# EAGLE library part RELAY_DPDT_* (library HyTechDevices)
Dual Pole, Dual Throw Relay Datasheet <https://www.mouser.com/datasheet/2/418/5/NG_DS_RT2_1014-572844.pdf>
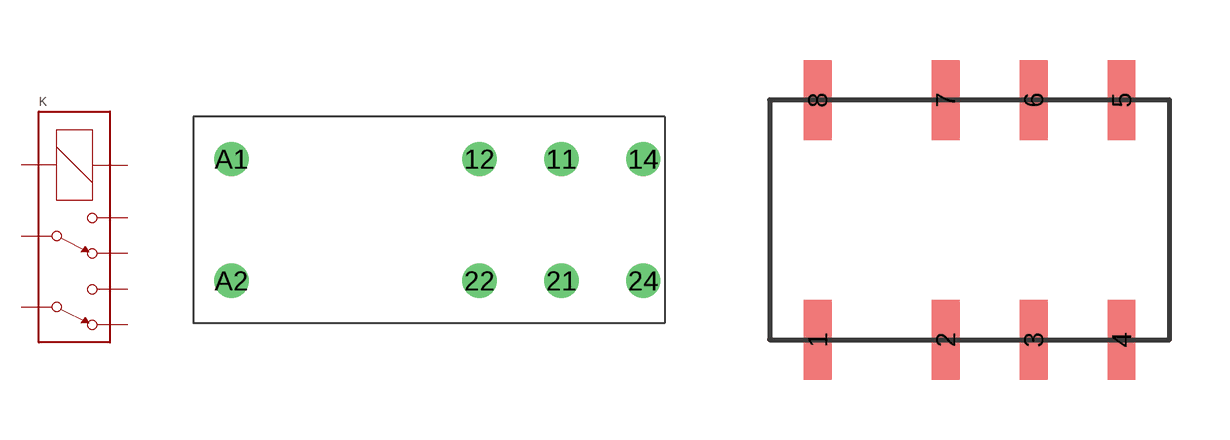
[diagram p57: symbol with the pads of RT*2*; footprints RT*2*, IM*G]

Designator prefix K

## RELAY_DPDT_RT424009TH (DKPN: PB2021-ND; MANUFACTURER: TE Connectivity; MOPN: 655-6-1393243-2; MPN: RT424009), RELAY_DPDT_RT424024TH (DKPN: PB969-ND; MANUFACTURER: TE Connectivity; MOPN: 655-RT424024; MPN: RT424024)  [RT*2*]
11  3
12  2
14  4
21  6
22  7
24  5
A1  COIL+
A2  COIL-

## RELAY_DPDT_07DSMT (DKPN: PB2077CT-ND; MANUFACTURER: TE Connectivity; MOPN: 655-3-1462039-7; MPN: 3-1462039-7)  [IM*G]
1  COIL+
2  2
3  3
4  4
5  5
6  6
7  7
8  COIL-

## Footprint RT*2* (pad centres in mm)
RT Form C Relay Datasheet <https://www.mouser.com/datasheet/2/418/5/NG_DS_RT2_1014-583824.pdf>
drill 1.4: 11 0,3.75; 12 -5.04,3.75; 14 5.04,3.75; 21 0,-3.75; 22 -5.04,-3.75; 24 5.04,-3.75; A1 -20.3,3.75; A2 -20.3,-3.75

## Footprint IM*G (pad centres in mm)
IM Series DPST Signal Relays (2 Form C) Datasheet <https://www.te.com/commerce/DocumentDelivery/DDEController?Action=srchrtrv&DocNm=108-98001&DocType=Data+Sheet&DocLang=English&DocFormat=pdf&PartCntxt=3-1462039-7>
smd 0.7 x 2: 1 -3.8,-3; 2 -0.6,-3; 3 1.6,-3; 4 3.8,-3; 5 3.8,3; 6 1.6,3; 7 -0.6,3; 8 -3.8,3